# EAGLE library part DA-2000 (library NixieTube)
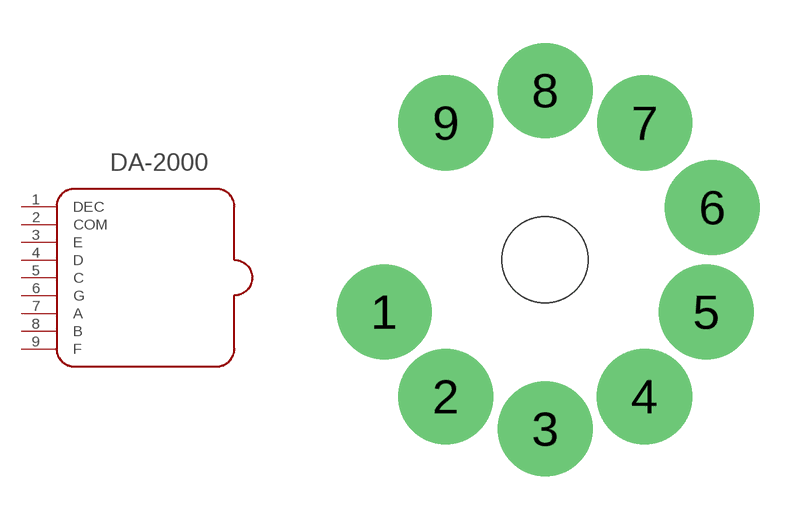
[diagram p7: symbol with the pads of DA-2000; footprint DA-2000]

Designator prefix -

## DA-2000  [DA-2000]
1  DEC  in
2  COM  pwr
3  E  in
4  D  in
5  C  in
6  G  in
7  A  in
8  B  in
9  F  in

## Footprint DA-2000 (pad centres in mm)
drill 2.3 pad 3.1: 1 -5.611,-1.823; 2 -3.468,-4.773; 3 0,-5.9; 4 3.46,-4.773; 5 5.611,-1.823; 6 5.819,1.823; 7 3.468,4.773; 8 0,5.9; 9 -3.468,4.773
hole 3 at 0,0